# Altium footprint library 3296X-1-102LF.PcbLib: 1 footprints
Each footprint in its own frame and in the unit in brackets; x right, y up, seen from the top. Pads: shape width x height; smd on the part's side, far side on the other; paste and mask are expansions set on the pad; w line width, h text height; cw(c..) or ccw(c..) is an arc to the next point about the centre after c.
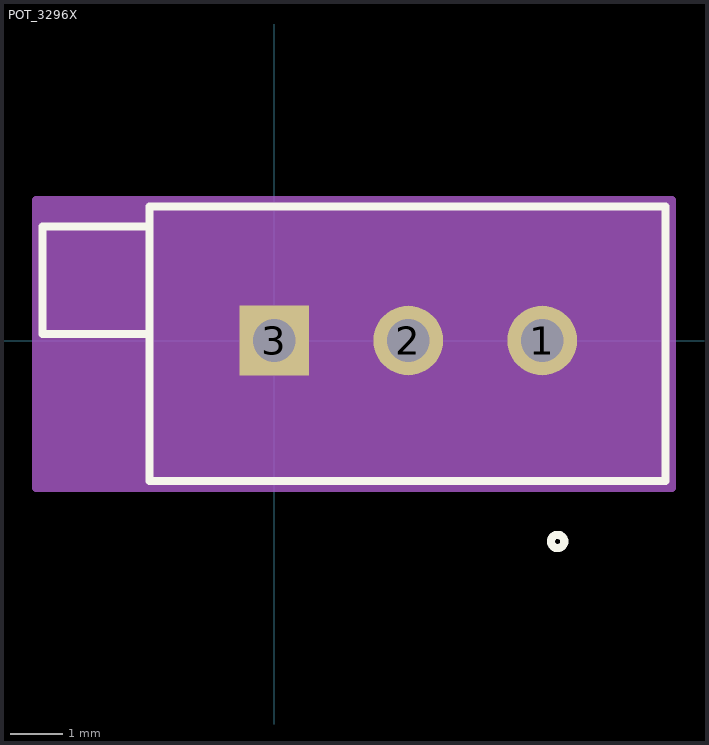
[diagram p0: the footprint, top view; thin cyan lines are the x and y axes]

## POT_3296X [mil]
pads (3):
  round 52 / inner round 60 / far side round 52 hole 32 paste-26 mask+0: 1(200,0) 2(100,0)
  rect 52x52 / inner round 60 / far side rect 52x52 hole 32 paste-26 mask+0: 3(0,0)
Top Overlay:
  circle w6: c211.5,-150 r5
  lines w6: -93,5 -173,5 -173,85 -93,85 ; -93,-105 292,-105 292,100 -93,100 -93,-105
Mechanical 13:
  circle w0: c211.5,-80 r5
  lines w1: -88,10 -168,10 -168,80 -88,80 ; -88,-100 287,-100 287,95 -88,95 -88,-100
Mechanical 15:
  region: 297,-110 -178,-110 -178,105 297,105
  lines w6: -178,-110 -178,105 297,105 297,-110 -178,-110
3D body "POT_3296X.step": height 375, standoff -250, extent -112.01,-100 297.99,95